# Altium footprint library HSBNE-MOTOR.PcbLib: 40 footprints (part 1 of 3)
Each footprint in its own frame and in the unit in brackets; x right, y up, seen from the top. Pads: shape width x height; smd on the part's side, far side on the other; paste and mask are expansions set on the pad; w line width, h text height; cw(c..) or ccw(c..) is an arc to the next point about the centre after c.
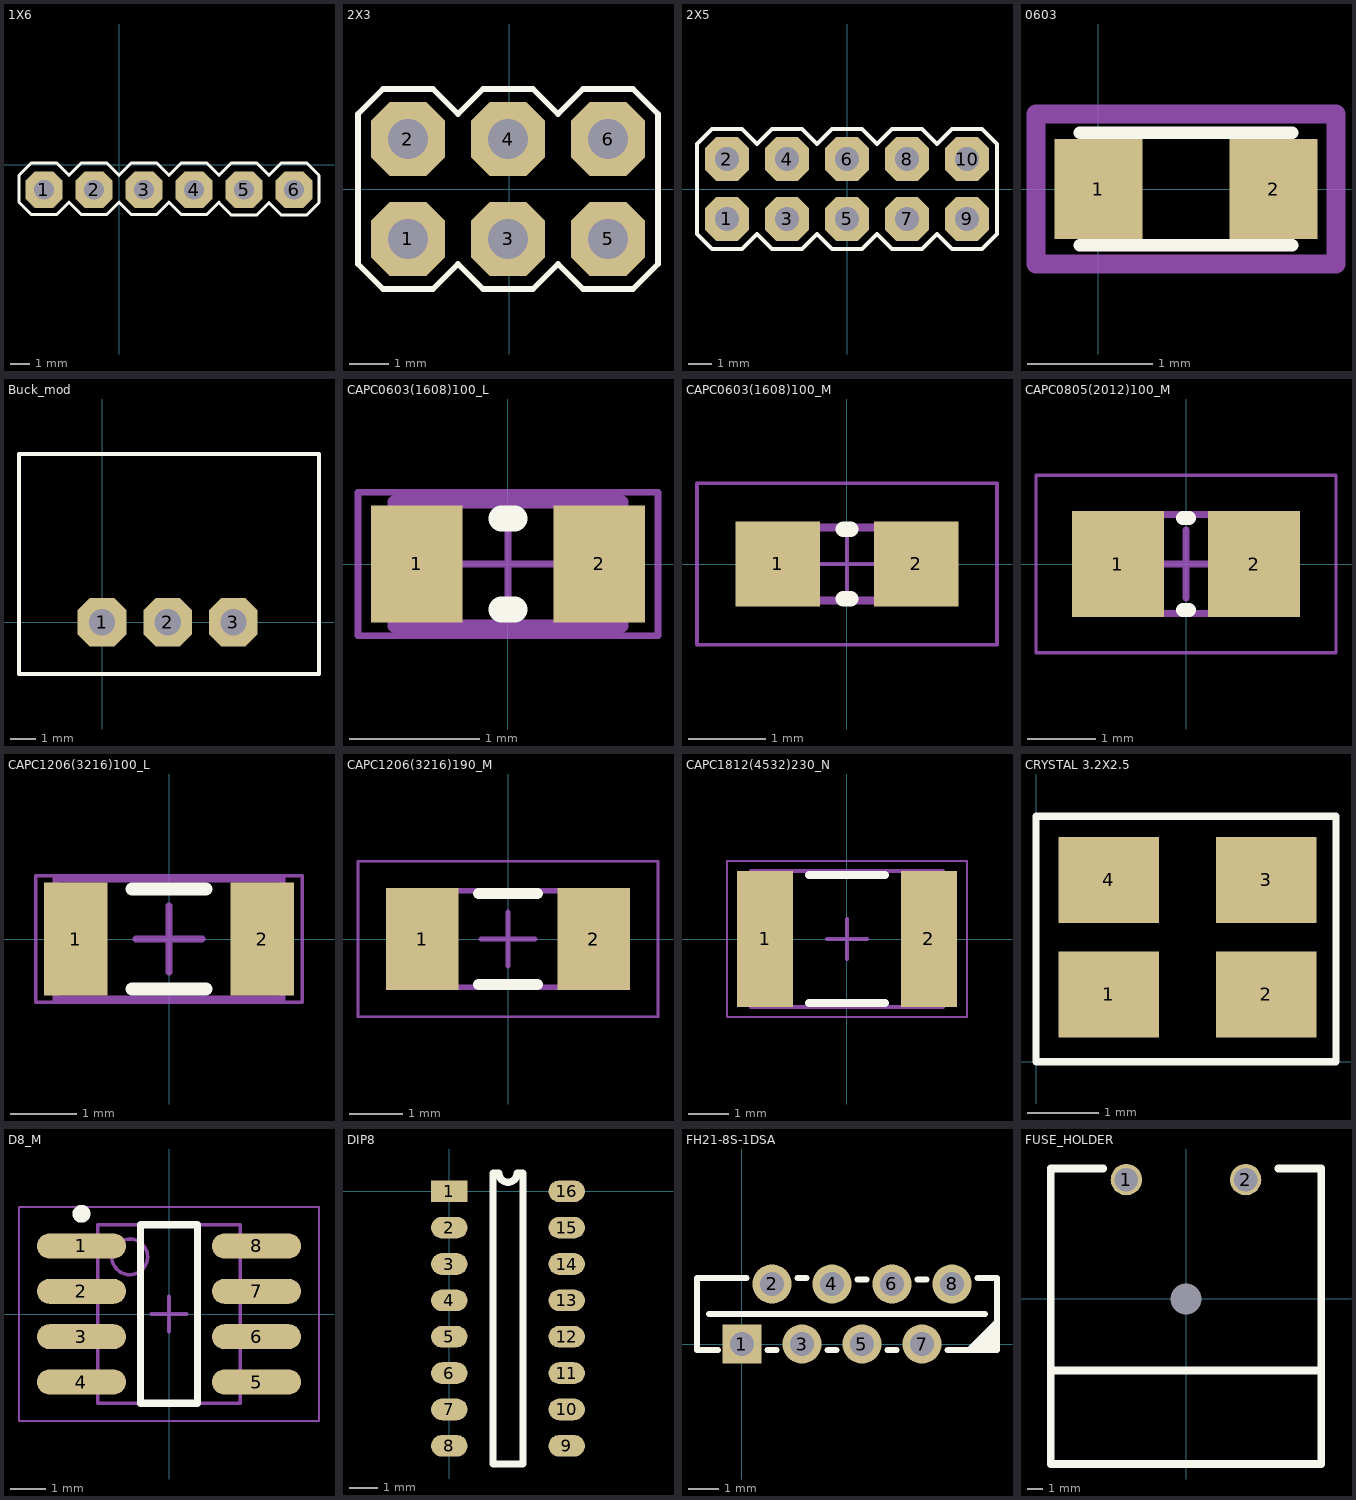
[diagram p0: the footprints below, top view; thin cyan lines are the x and y axes]

## 1X6 [mil]
pads (6):
  oct 74x74 hole 40: 1(-150,-50) 2(-50,-50) 3(50,-50) 4(150,-50) 5(250,-50) 6(350,-50)
Top Overlay:
  lines w6: 200,-76 225,-101 275,-101 300,-76 325,-101 375,-101 400,-76 400,-21 375,4 325,4 300,-21 275,4 225,4 200,-21 175,4 125,4 100,-21 75,4 25,4 0,-21 -25,4 -75,4 -100,-21 -125,4 -175,4 -200,-21 -200,-75 -175,-100 -125,-100 -100,-75 -75,-100 -25,-100 0,-75 25,-100 75,-100 100,-75 125,-100 175,-100 200,-75

## 2X3 [mil]
pads (6):
  oct 74x74 hole 40: 1(-101.18,-50) 2(-101.18,50) 3(-1.18,-50) 4(-1.18,50) 5(98.82,-50) 6(98.82,50)
Top Overlay:
  lines w6: -151.18,-75 -126.18,-100 -76.18,-100 -51.18,-75 -26.18,-100 23.82,-100 48.82,-75 73.82,-100 123.82,-100 148.82,-75 148.82,75 123.82,100 73.82,100 48.82,75 23.82,100 -26.18,100 -51.18,75 -76.18,100 -126.18,100 -151.18,75 -151.18,-75
3D body "User Library-HEADER, 2X3, 2_54MM X 2_54MM PITCH, VERT, TH.STEP": height 330, standoff -150, extent -150,-100 150,100

## 2X5 [mil]
pads (10):
  oct 74x74 hole 40: 1(-200,-50) 2(-200,50) 3(-100,-50) 4(-100,50) 5(0,-50) 6(0,50) 7(100,-50) 8(100,50) 9(200,-50) 10(200,50)
Top Overlay:
  lines w6: -250,-75 -225,-100 -175,-100 -150,-75 -125,-100 -75,-100 -50,-75 -25,-100 25,-100 50,-75 75,-100 125,-100 150,-75 175,-100 225,-100 250,-75 250,75 225,100 175,100 150,75 125,100 75,100 50,75 25,100 -25,100 -50,75 -75,100 -125,100 -150,75 -175,100 -225,100 -250,75 -250,-75
3D body "7731312210lf.stp": height 396.73, standoff -128.86, extent -242.13,-95.16 242.12,95

## 0603 [mm]
height 0.8
pads (2):
  rect 0.7x0.8 smd paste+0 mask+0.1: 1(0,0) 2(1.4,0)
Top Overlay:
  lines w0.1: -0.15,-0.45 1.55,-0.45 ; -0.15,0.45 1.55,0.45
Mechanical 2:
  lines w0.15: -0.5,-0.6 -0.5,0.6 1.9,0.6 1.9,-0.6 -0.5,-0.6
3D body: height 0.53, standoff 0, extent -0.15,-0.45 1.55,0.45

## Buck_mod [mil]
pads (3):
  oct 74x74 hole 40: 1(0,0) 2(100,0) 3(200,0)
Top Overlay:
  lines w5.98: -126.38,-78.74 -126.38,255.91 ; 330.31,-78.74 330.31,255.91
  lines w6: -126.38,-78.74 330.31,-78.74 ; -126.38,255.91 330.31,255.91
3D body: height 409.45, standoff 0, extent -125,-80 330,255

## CAPC0603(1608)100_L [mm] "Chip Capacitor, Body 1.6x0.8mm, Height 1.0mm, IPC High Density"
height 1
pads (2):
  rect 0.7x0.9 smd: 1(-0.7,0) 2(0.7,0)
Top Overlay:
  lines w0.2: -0.05,-0.35 0.05,-0.35 ; -0.05,0.35 0.05,0.35
Mechanical 13:
  lines w0.1: -0.875,-0.475 -0.875,0.475 0.875,0.475 0.875,-0.475 -0.875,-0.475
Mechanical 15:
  lines w0.05: -0.475,0 0.475,0 ; 0,-0.475 0,0.475 ; -1.15,-0.55 -1.15,0.55 1.15,0.55 1.15,-0.55 -1.15,-0.55
3D body: height 1, standoff 0, extent -0.525,-0.475 0.525,0.475
3D body: height 1, standoff 0, extent -0.875,-0.475 -0.525,0.475
3D body: height 1, standoff 0, extent 0.525,-0.475 0.875,0.475

## CAPC0603(1608)100_M [mm] "Chip Capacitor, Body 1.6x0.8mm, Height 1.0mm, IPC Low Density"
height 1
pads (2):
  rect 1.1x1.1 smd: 1(-0.9,0) 2(0.9,0)
Top Overlay:
  lines w0.2: -0.05,-0.45 0.05,-0.45 ; -0.05,0.45 0.05,0.45
Mechanical 13:
  lines w0.1: -0.875,-0.475 -0.875,0.475 0.875,0.475 0.875,-0.475 -0.875,-0.475
Mechanical 15:
  lines w0.05: -0.475,0 0.475,0 ; 0,-0.475 0,0.475 ; -1.95,-1.05 -1.95,1.05 1.95,1.05 1.95,-1.05 -1.95,-1.05
3D body: height 1, standoff 0, extent -0.525,-0.475 0.525,0.475
3D body: height 1, standoff 0, extent -0.875,-0.475 -0.525,0.475
3D body: height 1, standoff 0, extent 0.525,-0.475 0.875,0.475

## CAPC0805(2012)100_M [mm] "Chip Capacitor, Body 2.0x1.2mm, Height 1.0mm, IPC Low Density"
height 1
pads (2):
  rect 1.35x1.55 smd: 1(-1,0) 2(1,0)
Top Overlay:
  lines w0.2: -0.05,-0.675 0.05,-0.675 ; -0.05,0.675 0.05,0.675
Mechanical 13:
  lines w0.1: -1.1,-0.725 -1.1,0.725 1.1,0.725 1.1,-0.725 -1.1,-0.725
Mechanical 15:
  lines w0.05: -2.2,-1.3 -2.2,1.3 2.2,1.3 2.2,-1.3 -2.2,-1.3
  lines w0.1: -0.5,0 0.5,0 ; 0,-0.5 0,0.5
3D body: height 1, standoff 0, extent -0.6,-0.725 0.6,0.725
3D body: height 1, standoff 0, extent -1.1,-0.725 -0.6,0.725
3D body: height 1, standoff 0, extent 0.6,-0.725 1.1,0.725

## CAPC1206(3216)100_L [mm] "Chip Capacitor, Body 3.2x1.6mm, Height 1mm, IPC High Density"
height 1
pads (2):
  rect 0.95x1.7 smd: 1(-1.4,0) 2(1.4,0)
Top Overlay:
  lines w0.2: -0.55,-0.75 0.55,-0.75 ; -0.55,0.75 0.55,0.75
Mechanical 13:
  lines w0.1: -1.7,-0.9 1.7,-0.9 1.7,0.9 -1.7,0.9 -1.7,-0.9
Mechanical 15:
  lines w0.05: -2,-0.95 2,-0.95 2,0.95 -2,0.95 -2,-0.95
  lines w0.1: -0.5,0 0.5,0 ; 0,-0.5 0,0.5
3D body: height 1, standoff 0, extent 1.2,-0.9 1.7,0.9
3D body: height 1, standoff 0, extent -1.7,-0.9 -1.2,0.9
3D body: height 1, standoff 0, extent -1.2,-0.9 1.2,0.9

## CAPC1206(3216)190_M [mm] "Chip Capacitor, Body 3.2x1.6mm, Height 1.9mm, IPC Low Density"
height 1.9
pads (2):
  rect 1.35x1.9 smd: 1(-1.6,0) 2(1.6,0)
Top Overlay:
  lines w0.2: -0.55,-0.85 0.55,-0.85 ; -0.55,0.85 0.55,0.85
Mechanical 13:
  lines w0.1: -1.7,-0.9 -1.7,0.9 1.7,0.9 1.7,-0.9 -1.7,-0.9
Mechanical 15:
  lines w0.05: -2.8,-1.45 -2.8,1.45 2.8,1.45 2.8,-1.45 -2.8,-1.45
  lines w0.1: -0.5,0 0.5,0 ; 0,-0.5 0,0.5
3D body: height 1.9, standoff 0, extent -1.2,-0.9 1.2,0.9
3D body: height 1.9, standoff 0, extent -1.7,-0.9 -1.2,0.9
3D body: height 1.9, standoff 0, extent 1.2,-0.9 1.7,0.9

## CAPC1812(4532)230_N [mm] "Chip Capacitor, Body 4.5x3.2mm, Height 2.3mm, IPC Medium Density"
height 2.3
pads (2):
  rect 1.4x3.4 smd: 1(-2.05,0) 2(2.05,0)
Top Overlay:
  lines w0.2: -0.95,-1.6 0.95,-1.6 ; -0.95,1.6 0.95,1.6
Mechanical 13:
  lines w0.1: -2.4,-1.7 -2.4,1.7 2.4,1.7 2.4,-1.7 -2.4,-1.7
Mechanical 15:
  lines w0.05: -3,-1.95 -3,1.95 3,1.95 3,-1.95 -3,-1.95
  lines w0.1: -0.5,0 0.5,0 ; 0,-0.5 0,0.5
3D body: height 2.3, standoff 0, extent -1.8,-1.7 1.8,1.7
3D body: height 2.3, standoff 0, extent -2.4,-1.7 -1.8,1.7
3D body: height 2.3, standoff 0, extent 1.8,-1.7 2.4,1.7

## CRYSTAL 3.2X2.5 [mm]
pads (4):
  rect 1.4x1.2 smd: 1(1.016,0.94) 2(3.216,0.94) 3(3.216,2.54) 4(1.016,2.54)
Top Overlay:
  lines w0.1: 0,0 0,3.429 4.191,3.429 4.191,0 0,0
3D body "User Library-GeyerElectronics_KX6.STEP": height 0.56, standoff 0, extent 0.772,0.778 3.292,2.778

## D8_M [mm] "SOIC, 8-Leads, Body 4.9x3.9mm, Pitch 1.27mm, IPC Low Density"
height 1.75
pads (8):
  oval 2.5x0.7 smd: 1(-2.45,1.905) 2(-2.45,0.635) 3(-2.45,-0.635) 4(-2.45,-1.905) 5(2.45,-1.905) 6(2.45,-0.635) 7(2.45,0.635) 8(2.45,1.905)
Top Overlay:
  circle w0.25: c-2.45,2.805 r0.125
  lines w0.2: -0.8,-2.5 -0.8,2.5 0.8,2.5 0.8,-2.5 -0.8,-2.5
Mechanical 13:
  circle w0.1: c-1.1,1.6 r0.5
  lines w0.1: -2,-2.5 -2,2.5 2,2.5 2,-2.5 -2,-2.5
Mechanical 15:
  lines w0.05: -4.2,-3 -4.2,3 4.2,3 4.2,-3 -4.2,-3
  lines w0.1: -0.5,0 0.5,0 ; 0,-0.5 0,0.5
3D body: height 1.75, standoff 0.1, extent -2,-2.5 2,2.5

## DIP8 [mm]
pads (16):
  rect 1.27x0.76 smd: 1(0,0)
  oval 1.27x0.76 smd: 2(0,-1.27) 3(0,-2.54) 4(0,-3.81) 5(0,-5.08) 6(0,-6.35) 7(0,-7.62) 8(0,-8.89) 9(4.1,-8.89) 10(4.1,-7.62) 11(4.1,-6.35) 12(4.1,-5.08) 13(4.1,-3.81) 14(4.1,-2.54) 15(4.1,-1.27) 16(4.1,0)
Top Overlay:
  lines w0.254: 1.524,-9.525 2.576,-9.525 2.576,0.635 2.367,0.635 cw(c2.05,0.635) 1.732,0.635 1.524,0.635 1.524,-9.525
3D body "CHS-08TA.stp": height 2.42, standoff -0.1, extent -0.768,-10.295 4.832,1.405

## FH21-8S-1DSA [mm]
pads (8):
  rect 1.3x1.3 hole 0.8: 1(0,0)
  round 1.3 hole 0.8: 2(1,2) 3(2,0) 4(3,2) 5(4,0) 6(5,2) 7(6,0) 8(7,2)
Top Overlay:
  lines w0.2: -1.1,1 8.1,1 ; -0.8,-0.2 -1.5,-0.2 -1.5,2.2 0.15,2.2 ; 0.85,-0.2 1.15,-0.2 ; 1.85,2.2 2.15,2.2 ; 2.85,-0.2 3.15,-0.2 ; 3.85,2.15 4.15,2.15 ; 4.85,-0.2 5.15,-0.2 ; 5.85,2.15 6.15,2.15 ; 6.85,-0.2 8.5,-0.2 8.5,2.2 7.85,2.2 ; 8.5,0 8.3,-0.2 8.05,-0.2 8.5,0.25 8.5,0.5 7.8,-0.2 7.55,-0.2 8.5,0.75

## FUSE_HOLDER [mm] "01530007Z"
pads (3):
  round 0 hole 2 unplated: 0(0,0)
  round 2 hole 1.5: 1(-3.81,7.62) 2(3.81,7.62)
Top Overlay:
  lines w0.5: -5.283,8.331 -8.636,8.331 -8.636,-4.572 ; 5.893,8.331 8.636,8.331 8.636,-4.572 ; -8.636,-4.572 8.636,-4.572 ; -8.636,-4.572 -8.636,-10.541 8.636,-10.541 8.636,-4.572